# Altium footprint library PCBLib.PcbLib: 43 footprints (part 3 of 3)
Each footprint in its own frame and in the unit in brackets; x right, y up, seen from the top. Pads: shape width x height; smd on the part's side, far side on the other; paste and mask are expansions set on the pad; w line width, h text height; cw(c..) or ccw(c..) is an arc to the next point about the centre after c.
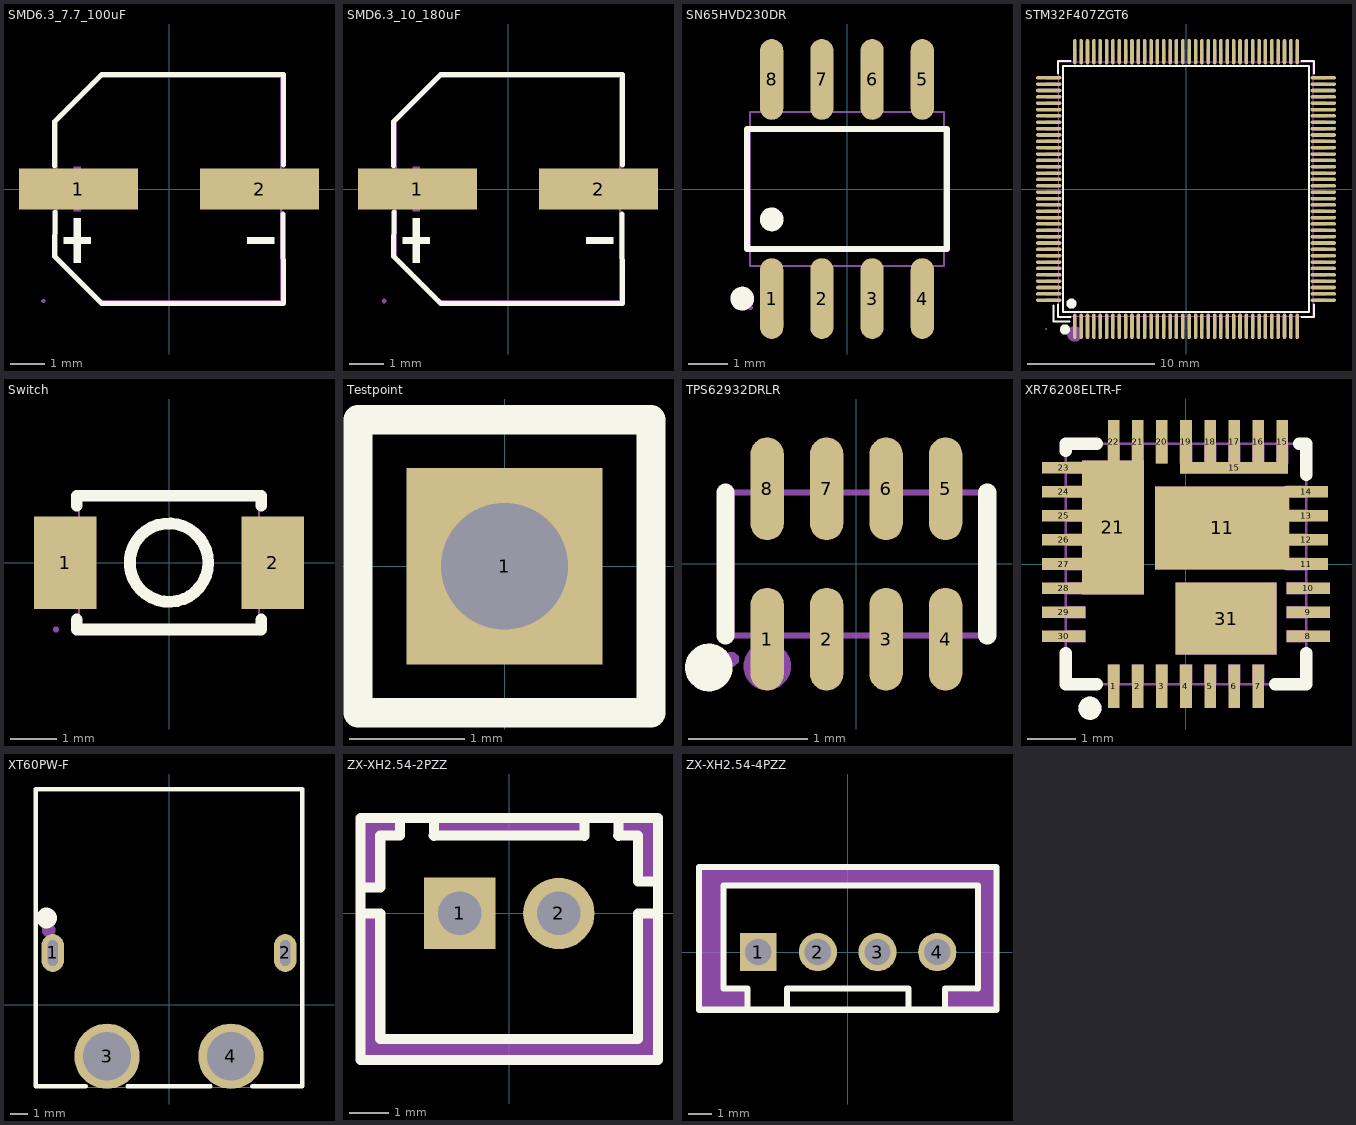
[diagram p2: the footprints below, top view; thin cyan lines are the x and y axes]

## SMD6.3_7.7_100uF [mm] "CAP-SMD_BD6.3-L6.6-W6.6-LS7.4-FD"
pads (2):
  rect 3.5x1.2 smd: 1(-2.67,0) 2(2.67,0)
Top Overlay:
  region: -2.805,-0.858 -2.805,-2.178 -2.607,-2.178 -2.607,-0.858
  region: -3.102,-1.419 -3.102,-1.617 -2.31,-1.617 -2.31,-1.419
  region: 3.102,-1.419 3.102,-1.617 2.31,-1.617 2.31,-1.419
  lines w0.152: -3.376,0.686 -3.376,1.98 -1.98,3.376 3.376,3.376 3.369,0.708 ; -3.362,-0.686 -3.376,-1.981 -1.981,-3.376 3.376,-3.376 3.356,-0.739
Mechanical 6:
  region: -2.805,0.66 -2.805,-0.66 -2.607,-0.66 -2.607,0.66
  region: -3.102,0.099 -3.102,-0.099 -2.31,-0.099 -2.31,0.099
  region: 3.102,0.099 3.102,-0.099 2.31,-0.099 2.31,0.099
Mechanical 15:
  region: 1.052,0.35 3.701,0.35 3.701,-0.35 1.052,-0.35
  region: -3.702,0.35 -1.052,0.35 -1.052,-0.35 -3.702,-0.35
  region: -3.642,-3.3 -3.643,-3.276 -3.677,-3.242 -3.726,-3.242 -3.761,-3.276 -3.762,-3.3 -3.761,-3.324 -3.726,-3.358 -3.677,-3.358 -3.643,-3.324 -3.642,-3.3
  lines w0.051: -3.3,-1.98 -3.3,1.98 -1.98,3.3 3.3,3.3 3.3,-3.3 -1.98,-3.3 -3.3,-1.98

## SMD6.3_10_180uF [mm] "CAP-SMD_BD6.3-L6.6-W6.6-LS7.3-FD"
pads (2):
  rect 3.5x1.2 smd: 1(-2.67,0) 2(2.67,0)
Top Overlay:
  region: 3.102,-1.419 3.102,-1.617 2.31,-1.617 2.31,-1.419
  region: -3.102,-1.419 -3.102,-1.617 -2.31,-1.617 -2.31,-1.419
  region: -2.805,-0.858 -2.805,-2.178 -2.607,-2.178 -2.607,-0.858
  lines w0.152: -3.376,0.686 -3.376,1.98 -1.98,3.376 3.376,3.376 3.369,0.708 ; -3.362,-0.686 -3.376,-1.981 -1.981,-3.376 3.376,-3.376 3.356,-0.739
Mechanical 6:
  region: 3.102,0.099 3.102,-0.099 2.31,-0.099 2.31,0.099
  region: -3.102,0.099 -3.102,-0.099 -2.31,-0.099 -2.31,0.099
  region: -2.805,0.66 -2.805,-0.66 -2.607,-0.66 -2.607,0.66
Mechanical 15:
  region: -3.652,0.35 -1.002,0.35 -1.002,-0.35 -3.652,-0.35
  region: 0.999,0.35 3.649,0.35 3.649,-0.35 0.999,-0.35
  region: -3.592,-3.3 -3.592,-3.275 -3.627,-3.24 -3.676,-3.24 -3.712,-3.275 -3.712,-3.3 -3.712,-3.325 -3.677,-3.36 -3.627,-3.36 -3.592,-3.325 -3.592,-3.3
  lines w0.051: -3.3,-1.98 -3.3,1.98 -1.98,3.3 3.3,3.3 3.3,-3.3 -1.98,-3.3 -3.3,-1.98

## SN65HVD230DR [mm] "SOIC-8_L4.9-W3.9-P1.27-LS6.0-BL"
pads (8):
  oval 0.588x2.045 smd: 1(-1.905,-2.772) 2(-0.635,-2.772) 3(0.635,-2.772) 4(1.905,-2.772) 5(1.905,2.772) 6(0.635,2.772) 7(-0.635,2.772) 8(-1.905,2.772)
Top Overlay:
  circle w0.3: c-1.905,-0.769 r0.15
  circle w0.3: c-2.652,-2.772 r0.15
  lines w0.152: -2.526,-1.521 -2.526,1.521 2.526,1.521 2.526,-1.521 -2.526,-1.521
Mechanical 6:
  circle w0.3: c-1.905,-3.4 r0.15
Mechanical 15:
  region: -2.39,-3 -2.391,-2.976 -2.426,-2.941 -2.475,-2.941 -2.51,-2.975 -2.51,-3 -2.51,-3.024 -2.475,-3.059 -2.426,-3.059 -2.391,-3.024 -2.39,-3
  region: -2.115,-3 -2.115,-2.165 -1.695,-2.165 -1.695,-3
  region: -2.115,-2.175 -2.115,-1.94 -1.695,-1.94 -1.695,-2.175
  region: -0.845,-3 -0.845,-2.165 -0.425,-2.165 -0.425,-3
  region: -0.845,-2.175 -0.845,-1.94 -0.425,-1.94 -0.425,-2.175
  region: 0.425,-3 0.425,-2.165 0.845,-2.165 0.845,-3
  region: 0.425,-2.175 0.425,-1.94 0.845,-1.94 0.845,-2.175
  region: 1.695,-3 1.695,-2.165 2.115,-2.165 2.115,-3
  region: 1.695,-2.175 1.695,-1.94 2.115,-1.94 2.115,-2.175
  region: -2.115,3 -2.115,2.165 -1.695,2.165 -1.695,3
  region: -2.115,2.175 -2.115,1.94 -1.695,1.94 -1.695,2.175
  region: -0.845,3 -0.845,2.165 -0.425,2.165 -0.425,3
  region: -0.845,2.175 -0.845,1.94 -0.425,1.94 -0.425,2.175
  region: 0.425,3 0.425,2.165 0.845,2.165 0.845,3
  region: 0.425,2.175 0.425,1.94 0.845,1.94 0.845,2.175
  region: 1.695,3 1.695,2.165 2.115,2.165 2.115,3
  region: 1.695,2.175 1.695,1.94 2.115,1.94 2.115,2.175
  lines w0.051: -2.45,-1.95 -2.45,1.95 2.45,1.95 2.45,-1.95 -2.45,-1.95

## STM32F407ZGT6 [mm] "LQFP-144_L20.0-W20.0-P0.50-LS22.0-BL"
pads (144):
  oval 0.28x2 smd: 1(-8.75,-10.8) 2(-8.25,-10.8) 3(-7.75,-10.8) 4(-7.25,-10.8) 5(-6.75,-10.8) 6(-6.25,-10.8) 7(-5.75,-10.8) 8(-5.25,-10.8) 9(-4.75,-10.8) 10(-4.25,-10.8) 11(-3.75,-10.8) 12(-3.25,-10.8) 13(-2.75,-10.8) 14(-2.25,-10.8) 15(-1.75,-10.8) 16(-1.25,-10.8) 17(-0.75,-10.8) 18(-0.25,-10.8) 19(0.25,-10.8) 20(0.75,-10.8) 21(1.25,-10.8) 22(1.75,-10.8) 23(2.25,-10.8) 24(2.75,-10.8) 25(3.25,-10.8) 26(3.75,-10.8) 27(4.25,-10.8) 28(4.75,-10.8) 29(5.25,-10.8) 30(5.75,-10.8) 31(6.25,-10.8) 32(6.75,-10.8) 33(7.25,-10.8) 34(7.75,-10.8) 35(8.25,-10.8) 36(8.75,-10.8) 73(8.75,10.8) 74(8.25,10.8) 75(7.75,10.8) 76(7.25,10.8) 77(6.75,10.8) 78(6.25,10.8) 79(5.75,10.8) 80(5.25,10.8) 81(4.75,10.8) 82(4.25,10.8) 83(3.75,10.8) 84(3.25,10.8) 85(2.75,10.8) 86(2.25,10.8) 87(1.75,10.8) 88(1.25,10.8) 89(0.75,10.8) 90(0.25,10.8) 91(-0.25,10.8) 92(-0.75,10.8) 93(-1.25,10.8) 94(-1.75,10.8) 95(-2.25,10.8) 96(-2.75,10.8) 97(-3.25,10.8) 98(-3.75,10.8) 99(-4.25,10.8) 100(-4.75,10.8) 101(-5.25,10.8) 102(-5.75,10.8) 103(-6.25,10.8) 104(-6.75,10.8) 105(-7.25,10.8) 106(-7.75,10.8) 107(-8.25,10.8) 108(-8.75,10.8)
  oval 2x0.28 smd: 37(10.8,-8.75) 38(10.8,-8.25) 39(10.8,-7.75) 40(10.8,-7.25) 41(10.8,-6.75) 42(10.8,-6.25) 43(10.8,-5.75) 44(10.8,-5.25) 45(10.8,-4.75) 46(10.8,-4.25) 47(10.8,-3.75) 48(10.8,-3.25) 49(10.8,-2.75) 50(10.8,-2.25) 51(10.8,-1.75) 52(10.8,-1.25) 53(10.8,-0.75) 54(10.8,-0.25) 55(10.8,0.25) 56(10.8,0.75) 57(10.8,1.25) 58(10.8,1.75) 59(10.8,2.25) 60(10.8,2.75) 61(10.8,3.25) 62(10.8,3.75) 63(10.8,4.25) 64(10.8,4.75) 65(10.8,5.25) 66(10.8,5.75) 67(10.8,6.25) 68(10.8,6.75) 69(10.8,7.25) 70(10.8,7.75) 71(10.8,8.25) 72(10.8,8.75) 109(-10.8,8.75) 110(-10.8,8.25) 111(-10.8,7.75) 112(-10.8,7.25) 113(-10.8,6.75) 114(-10.8,6.25) 115(-10.8,5.75) 116(-10.8,5.25) 117(-10.8,4.75) 118(-10.8,4.25) 119(-10.8,3.75) 120(-10.8,3.25) 121(-10.8,2.75) 122(-10.8,2.25) 123(-10.8,1.75) 124(-10.8,1.25) 125(-10.8,0.75) 126(-10.8,0.25) 127(-10.8,-0.25) 128(-10.8,-0.75) 129(-10.8,-1.25) 130(-10.8,-1.75) 131(-10.8,-2.25) 132(-10.8,-2.75) 133(-10.8,-3.25) 134(-10.8,-3.75) 135(-10.8,-4.25) 136(-10.8,-4.75) 137(-10.8,-5.25) 138(-10.8,-5.75) 139(-10.8,-6.25) 140(-10.8,-6.75) 141(-10.8,-7.25) 142(-10.8,-7.75) 143(-10.8,-8.25) 144(-10.8,-8.75)
Top Overlay:
  circle w0.4: c-9.525,-11.049 r0.2
  circle w0.4: c-9.017,-9.017 r0.2
  lines w0.152: -10.414,-9.144 -10.414,-10.414 -9.144,-10.414 ; -10.076,-9.081 -10.076,-10.076 -9.08,-10.076 ; -10.076,9.08 -10.076,10.076 -9.08,10.076 ; 9.081,-10.076 10.076,-10.076 10.076,-9.081 ; 9.081,10.076 10.076,10.076 10.076,9.08 ; -9.671,-9.671 -9.671,9.671 9.671,9.671 9.671,-9.671 -9.671,-9.671
Mechanical 6:
  circle w0.6: c-8.75,-11.4 r0.3
Mechanical 15:
  drawing of 293 lines, arcs and shapes, not listed

## Switch [mm] "SW-SMD_L3.9-W2.9-P4.15-LS5.0"
pads (2):
  rect 1.35x2 smd: 1(-2.25,0) 2(2.25,0)
Top Overlay:
  circle w0.254: c0,0 r0.85
  lines w0.254: -2,-1.231 -2,-1.45 2,-1.45 2,-1.231 ; -2,1.231 -2,1.45 2,1.45 2,1.231
Mechanical 15:
  region: -2.45,0.65 -1.85,0.65 -1.85,-0.65 -2.45,-0.65
  region: 1.85,0.65 2.45,0.65 2.45,-0.65 1.85,-0.65
  region: -2.39,-1.45 -2.39,-1.425 -2.425,-1.39 -2.475,-1.39 -2.51,-1.425 -2.51,-1.45 -2.51,-1.475 -2.475,-1.51 -2.425,-1.51 -2.39,-1.475 -2.39,-1.45
  lines w0.051: -1.95,-1.45 -1.95,1.45 1.95,1.45 1.95,-1.45 -1.95,-1.45

## Testpoint [mm] "HDR-TH_1P-P2.54-V-M"
pads (1):
  rect 1.7x1.7 hole 1.1: 1(0,0)
Top Overlay:
  lines w0.254: -1.27,-1.27 -1.27,1.27 1.27,1.27 1.27,-1.27 -1.27,-1.27
Mechanical 15:
  region: -0.325,-0.325 -0.325,0.325 0.325,0.325 0.325,-0.325
  region: 1.33,1.25 1.329,1.274 1.294,1.309 1.246,1.309 1.211,1.274 1.21,1.25 1.211,1.225 1.246,1.191 1.294,1.191 1.329,1.225 1.33,1.25
  lines w0.051: -1.27,-1.25 1.27,-1.25 1.27,1.25 -1.27,1.25 -1.27,-1.25

## TPS62932DRLR [mm] "SMD-8_L2.1-W1.2-P0.50-LS1.6-BL"
pads (8):
  oval 0.28x0.864 smd: 1(-0.75,-0.632) 2(-0.25,-0.632) 3(0.25,-0.632) 4(0.75,-0.632) 5(0.75,0.632) 6(0.25,0.632) 7(-0.25,0.632) 8(-0.75,0.632)
Top Overlay:
  circle w0.2: c-1.24,-0.87 r0.1
  lines w0.152: -1.1,-0.6 -1.1,0.6 ; 1.1,-0.6 1.1,0.6
Mechanical 6:
  circle w0.2: c-0.75,-0.86 r0.1
Mechanical 15:
  region: -0.99,-0.8 -0.991,-0.776 -1.026,-0.742 -1.074,-0.743 -1.109,-0.776 -1.11,-0.8 -1.109,-0.824 -1.074,-0.858 -1.026,-0.858 -0.991,-0.824 -0.99,-0.8
  region: -0.63,-0.8 -0.63,-0.46 -0.87,-0.46 -0.87,-0.8
  region: -0.13,-0.8 -0.13,-0.46 -0.37,-0.46 -0.37,-0.8
  region: 0.37,-0.8 0.37,-0.46 0.13,-0.46 0.13,-0.8
  region: 0.87,-0.8 0.87,-0.46 0.63,-0.46 0.63,-0.8
  region: 0.87,0.8 0.87,0.46 0.63,0.46 0.63,0.8
  region: 0.37,0.8 0.37,0.46 0.13,0.46 0.13,0.8
  region: -0.13,0.8 -0.13,0.46 -0.37,0.46 -0.37,0.8
  region: -0.63,0.8 -0.63,0.46 -0.87,0.46 -0.87,0.8
  lines w0.051: -1.05,-0.6 -1.05,0.6 1.05,0.6 1.05,-0.6 -1.05,-0.6

## XR76208ELTR-F [mm] "QFN-30_L5.0-W5.0-P0.50-BL_XR76208XX"
pads (34):
  rect 0.24x0.9 smd paste-100 mask+0.051: 1(-1.5,-2.54) 2(-1,-2.54) 3(-0.5,-2.54) 4(0,-2.54) 5(0.5,-2.54) 6(1,-2.54) 7(1.5,-2.54) 15(2,2.54) 16(1.5,2.54) 17(1,2.54) 18(0.5,2.54) 19(0,2.54) 20(-0.5,2.54) 21(-1,2.54) 22(-1.5,2.54)
  rect 0.9x0.24 smd paste-100 mask+0.051: 8(2.54,-1.5) 9(2.54,-1) 10(2.54,-0.5) 23(-2.54,2) 24(-2.54,1.5) 25(-2.54,1) 26(-2.54,0.5) 27(-2.54,0) 28(-2.54,-0.5) 29(-2.54,-1) 30(-2.54,-1.5)
  rect 2.785x1.72 smd paste-100 mask+0.051: 11(0.75,0.75)
  rect 0.916x0.24 smd paste-100 mask+0.051: 11(2.5,0) 12(2.5,0.5) 13(2.5,1) 14(2.5,1.5)
  rect 2.24x0.24 smd paste-100 mask+0.051: 15(1,2)
  rect 1.285x2.785 smd paste-100 mask+0.051: 21(-1.52,0.76)
  rect 2.1x1.5 smd paste-100 mask+0.051: 31(0.835,-1.135)
Top Overlay:
  circle w0.24: c-2,-3 r0.12
  lines w0.254: -2.5,-1.851 -2.5,-2.5 -1.851,-2.5 ; -2.5,2.351 -2.5,2.5 -1.851,2.5 ; 1.851,-2.5 2.5,-2.5 2.5,-1.851 ; 2.351,2.5 2.5,2.5 2.5,1.851
Top Paste:
  drawing of 17 lines, arcs and shapes, not listed
Mechanical 6:
  circle w0.24: c-2,-3 r0.12
Mechanical 15:
  drawing of 39 lines, arcs and shapes, not listed

## XT60PW-F [mm] "TH_2P-XT60PW-F"
pads (4):
  oval 1.3x2.2 hole 0.6 slot 1.5 at 90 deg paste+0 mask+0.05: 1(-6.75,3) 2(6.75,3)
  round 3.8 hole 2.8 paste+0 mask+0.05: 3(-3.6,-3) 4(3.6,-3)
Top Overlay:
  circle w0.6: c-7.112,5.032 r0.3
  lines w0.254: -4.826,-4.747 -7.747,-4.747 -7.747,12.525 7.747,12.525 7.747,-4.747 4.826,-4.747 ; -2.413,-4.747 2.413,-4.747
Mechanical 6:
  circle w0.4: c-6.985,4.318 r0.2
Mechanical 15:
  region: 6.925,3.55 6.925,2.45 6.575,2.45 6.575,3.55
  region: -6.575,3.55 -6.575,2.45 -6.925,2.45 -6.925,3.55
  region: -7.69,-4.8 -7.69,-4.775 -7.725,-4.74 -7.775,-4.74 -7.81,-4.775 -7.81,-4.8 -7.81,-4.825 -7.775,-4.86 -7.725,-4.86 -7.69,-4.825 -7.69,-4.8
  region: 4.85,-3 4.85,-2.835 4.765,-2.517 4.6,-2.232 4.367,-2 4.082,-1.835 3.764,-1.75 3.435,-1.75 3.117,-1.835 2.832,-2 2.599,-2.232 2.435,-2.518 2.35,-2.835 2.35,-3 2.35,-3.165 2.435,-3.483 2.6,-3.768 2.832,-4 3.117,-4.165 3.435,-4.25 3.765,-4.25 4.082,-4.165 4.368,-4 4.6,-3.768 4.765,-3.483 4.85,-3.165 4.85,-3
  region: -2.35,-3 -2.35,-2.835 -2.435,-2.517 -2.6,-2.232 -2.832,-2 -3.117,-1.835 -3.435,-1.75 -3.765,-1.75 -4.083,-1.835 -4.368,-2 -4.6,-2.232 -4.765,-2.518 -4.85,-2.835 -4.85,-3 -4.85,-3.165 -4.765,-3.483 -4.6,-3.768 -4.368,-4 -4.083,-4.165 -3.765,-4.25 -3.435,-4.25 -3.117,-4.165 -2.832,-4 -2.6,-3.768 -2.435,-3.483 -2.35,-3.165 -2.35,-3
  lines w0.051: -7.75,-4.8 7.75,-4.8 7.75,12.4 -7.75,12.4 -7.75,-4.8

## ZX-XH2.54-2PZZ [mm] "CONN-TH_2P-P2.50_HX25003-2A"
pads (2):
  rect 1.8x1.8 hole 1.1 paste+0 mask+0.05: 1(-1.25,0)
  round 1.8 hole 1.1 paste+0 mask+0.05: 2(1.25,0)
Top Overlay:
  lines w0.254: -3.75,-2.416 -3.75,0 -3.25,0 -3.25,-2.416 -3.25,-3.167 3.25,-3.167 3.25,-2.344 3.25,0 3.75,0 3.75,-2.344 ; -3.75,-1.603 -3.75,0.648 -3.25,0.65 -3.25,1.958 -2.75,1.958 -2.75,2.408 ; -1.9,1.95 -1.9,2.4 ; -1.9,1.958 1.9,1.958 ; 1.9,1.95 1.9,2.4 ; 2.75,1.95 2.75,2.399 ; 2.75,1.958 3.25,1.958 3.25,0.8 3.75,0.8 3.75,-1.501 ; -3.75,-3.7 3.75,-3.7 3.75,2.4 -3.75,2.4 -3.75,-3.7
Mechanical 6:
  region: 2.75,1.95 3.242,1.95 3.25,1.958 3.25,0.8 3.75,0.8 3.75,2.4 2.751,2.4 2.75,2.399
  region: -2.75,1.9 -3.241,1.9 -3.25,1.908 -3.25,0.75 -3.75,0.75 -3.75,2.35 -2.751,2.35 -2.75,2.349
  region: 3.25,0 3.75,0 3.75,-3.7 -3.75,-3.7 -3.75,-0.05 -3.25,0 -3.25,-3.167 3.25,-3.167
  region: 1.9,2.4 1.9,1.9 -1.9,1.9 -1.9,2.4
Mechanical 15:
  region: 0.93,0.32 1.57,0.32 1.57,-0.32 0.93,-0.32
  region: -1.57,0.32 -0.93,0.32 -0.93,-0.32 -1.57,-0.32
  region: -3.69,-3.5 -3.69,-3.475 -3.725,-3.44 -3.775,-3.44 -3.81,-3.475 -3.81,-3.5 -3.81,-3.525 -3.775,-3.56 -3.725,-3.56 -3.69,-3.525 -3.69,-3.5
  lines w0.051: -3.75,-3.5 -3.75,2.4 3.75,2.4 3.75,-3.5 -3.75,-3.5

## ZX-XH2.54-4PZZ [mm] "CONN-TH_4P-P2.50_4PIN"
pads (4):
  rect 1.524x1.6 hole 1.1: 1(-3.75,0)
  round 1.6 hole 1.1: 2(-1.25,0) 3(1.25,0) 4(3.75,0)
Top Overlay:
  lines w0.254: -4.191,-2.413 -4.191,-2.286 -4.191,-1.524 -5.207,-1.524 -5.207,2.794 5.461,2.794 5.461,-1.524 4.064,-1.524 4.064,-2.286 ; -2.54,-2.413 -2.54,-1.524 2.54,-1.524 2.54,-2.413 ; -6.223,-2.413 -6.223,3.556 6.223,3.556 6.223,-2.413 -6.223,-2.413
Mechanical 6:
  region: 4.064,-2.413 4.064,-1.651 5.334,-1.651 5.461,-1.524 5.461,2.794 -5.207,2.794 -5.207,-1.524 -4.191,-1.524 -4.191,-2.413 -6.223,-2.413 -6.223,3.556 6.223,3.556 6.223,-2.413
Mechanical 15:
  region: 3.43,0.32 4.07,0.32 4.07,-0.32 3.43,-0.32
  region: 0.93,0.32 1.57,0.32 1.57,-0.32 0.93,-0.32
  region: -1.57,0.32 -0.93,0.32 -0.93,-0.32 -1.57,-0.32
  region: -4.07,0.32 -3.43,0.32 -3.43,-0.32 -4.07,-0.32
  region: -6.19,-2.4 -6.19,-2.375 -6.225,-2.34 -6.275,-2.34 -6.31,-2.375 -6.31,-2.4 -6.31,-2.425 -6.275,-2.46 -6.225,-2.46 -6.19,-2.425 -6.19,-2.4
  lines w0.051: -6.25,-2.4 6.25,-2.4 6.25,3.5 -6.25,3.5 -6.25,-2.4